# Altium schematic symbol library TPS2051CDBV.SchLib: 1 symbol
Pins are listed as number, name and electrical type; pins without a type are passive.

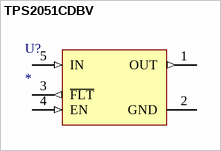
[diagram p0: symbol TPS2051CDBV]

## TPS2051CDBV
designator U?
Value: *
pins: 1 OUT (out), 2 GND (power), 3 ~{FLT} (out), 4 EN (in), 5 IN (in)